# Altium footprint library RC_ControllerV.2.PcbLib: 43 footprints (part 1 of 3)
Each footprint in its own frame and in the unit in brackets; x right, y up, seen from the top. Pads: shape width x height; smd on the part's side, far side on the other; paste and mask are expansions set on the pad; w line width, h text height; cw(c..) or ccw(c..) is an arc to the next point about the centre after c.
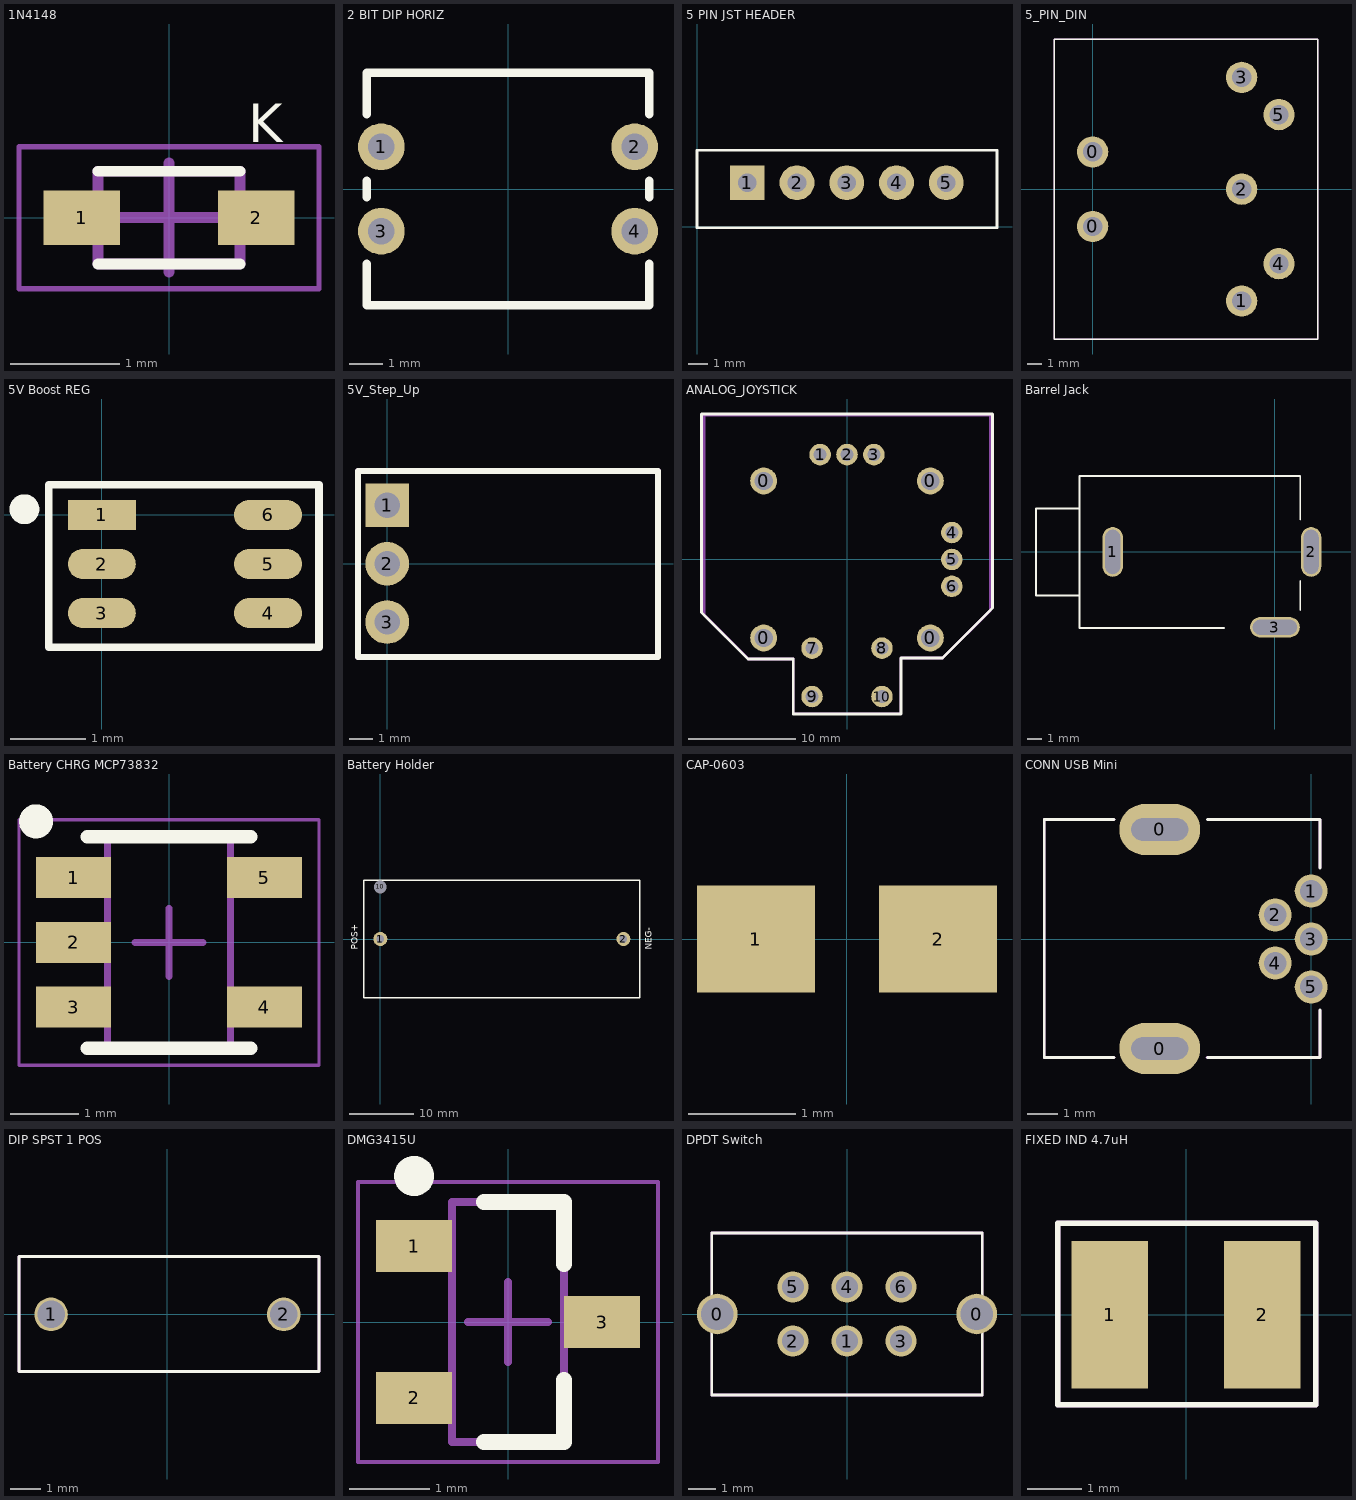
[diagram p0: the footprints below, top view; thin cyan lines are the x and y axes]

## 1N4148 [mm]
height 0.77
pads (2):
  rect 0.7x0.5 smd: 1(-0.8,0) 2(0.8,0)
Top Overlay:
  lines w0.1: -0.65,-0.425 0.65,-0.425 ; -0.65,0.425 0.65,0.425
  text "K" at 0.725,0.575 h0.6
Mechanical 13:
  lines w0.1: -0.65,-0.425 -0.65,0.425 0.65,0.425 0.65,-0.425 -0.65,-0.425
Mechanical 15:
  lines w0.05: -1.375,-0.65 -1.375,0.65 1.375,0.65 1.375,-0.65 -1.375,-0.65
  lines w0.1: -0.5,0 0.5,0 ; 0,-0.5 0,0.5
3D body "User Library-SOD-523F.STEP": height 0.71, standoff 0.01, extent -0.8,-0.399 0.8,0.399

## 2 BIT DIP HORIZ [mm]
pads (4):
  round 1.4 hole 0.8 mask+0.102: 1(-3.81,1.27) 2(3.81,1.27) 3(-3.81,-1.27) 4(3.81,-1.27)
Top Overlay:
  lines w0.254: -4.25,-2.25 -4.25,-3.5 4.25,-3.5 4.25,-2.25 ; -4.25,-0.25 -4.25,0.25 ; -4.25,2.25 -4.25,3.5 4.25,3.5 4.25,2.25 ; 4.25,-0.25 4.25,0.25
3D body "User Library-switch-2position.STEP": height 4.75, standoff -3.2, extent -4,-3.3 4,3.25

## 5 PIN JST HEADER [mm]
pads (5):
  rect 1.75x1.75 hole 0.95: 1(2.5,2.2)
  round 1.75 hole 0.95: 2(5,2.2) 3(7.5,2.2) 4(10,2.2) 5(12.5,2.2)
Top Overlay:
  lines w0.127: -0.025,-0.05 -0.025,3.825 15.05,3.825 15.05,-0.05 -0.025,-0.05
3D body: height 4.5, standoff 0, extent -0.325,0 -0.325,0
3D body "B5B-EH-A.STEP": height 6, standoff -3.2, extent 0,0 15,3.8

## 5_PIN_DIN [mm]
pads (7):
  round 2.1 hole 1.3: 0(0,-2.5) 0(0,2.5) 1(10,-7.5) 2(10,0) 3(10,7.5) 4(12.5,-5) 5(12.5,5)
Top Overlay:
  lines w0.1: -2.575,-10.05 -2.575,10.075 15.1,10.075 15.1,-10.05 -2.575,-10.05
Mechanical 29:
  lines w0.1: -2.575,-10.05 -2.575,10.075 15.1,10.075 15.1,-10.05 -2.575,-10.05
  text ".designator" at -1,0.5 h1.52
3D body "CUI_SDS-50J.step": height 21.1, standoff -3.5, extent -2.5,-10 13,10

## 5V Boost REG [mm]
pads (6):
  rect 0.9x0.4 smd: 1(0,0)
  oval 0.9x0.4 smd: 2(0,-0.65) 3(0,-1.3) 4(2.2,-1.3) 5(2.2,-0.65) 6(2.2,0)
Top Overlay:
  circle w0.254: c-1.025,0.075 r0.071
  lines w0.1: -0.7,-1.75 2.875,-1.75 2.875,0.4 -0.7,0.4 -0.7,-1.75
3D body "DCK6.step": height 1.09, standoff 0, extent -0.106,-1.73 2.306,0.43

## 5V_Step_Up [mm]
pads (3):
  rect 1.9x1.9 hole 1.1: 1(0,2.54)
  round 1.9 hole 1.1: 2(0,0) 3(0,-2.54)
Top Overlay:
  lines w0.254: -1.27,-4.064 -1.27,4.039 11.786,4.039 11.786,-4.064 -1.27,-4.064
Mechanical 29:
  lines w0.254: -1.27,-4.064 -1.27,4.039 11.786,4.039 11.786,-4.039 11.76,-4.064 -1.27,-4.064
3D body: height 4.31, standoff -3.49, extent 5.232,-0.559 5.232,-0.559
3D body: height 4.31, standoff -3.49, extent 6.807,-1.092 6.807,-1.092
3D body: height 7, standoff 0, extent -1.27,-4.064 11.76,4.039

## ANALOG_JOYSTICK [mm]
pads (14):
  round 2.5 hole 1.7: 0(-7.75,-7.3) 0(-7.75,7.3) 0(7.75,-7.3) 0(7.75,7.3)
  round 2 hole 1.2: 1(-2.5,9.75) 2(0,9.75) 3(2.5,9.75) 4(9.75,2.5) 5(9.75,0) 6(9.75,-2.5) 7(-3.25,-8.25) 8(3.25,-8.25) 9(-3.25,-12.75) 10(3.25,-12.75)
Top Overlay:
  lines w0.254: -13.525,-4.925 -13.525,13.525 13.525,13.525 13.525,-4.525 8.875,-9.175 5.025,-9.175 5.025,-14.375 -5,-14.375 -5,-9.25 -9.2,-9.25 -13.525,-4.925
Mechanical 29:
  lines w0.254: -13.272,-5.153 -13.272,13.397 13.325,13.397 13.325,-4.75 8.9,-9.175 5,-9.175 5,-14.35 -5,-14.35 -5,-9.25 -9.175,-9.25 -13.272,-5.153
  text ".designator" at -8.4,2.525 h1.52

## Barrel Jack [mil]
pads (3):
  oval 55x135 hole 40 slot 120 at 90 deg: 1(-440.94,0) 2(98.43,0)
  oval 135x55 hole 40 slot 120 at 0 deg: 3(0,-204.72)
Top Overlay:
  lines w5: -531.5,-118.11 -649.61,-118.11 -649.61,118.11 -531.5,118.11 ; -137.8,-206.69 -531.5,-206.69 -531.5,206.69 -137.8,206.69 68.9,206.69 68.9,88.58 ; 68.9,-157.48 68.9,-78.74
3D body "CUI_MJ-3536NG.sldprt": height 401.57, standoff -169.29, extent -654.53,-210.63 103.35,198.82

## Battery CHRG MCP73832 [mm] "Single cell LiPO Charge Managment IC"
height 1.45
pads (5):
  rect 1.1x0.6 smd: 1(-1.4,0.95) 2(-1.4,0) 3(-1.4,-0.95) 4(1.4,-0.95) 5(1.4,0.95)
Top Overlay:
  circle w0.25: c-1.95,1.775 r0.125
  lines w0.2: -1.2,-1.55 1.2,-1.55 ; -1.2,1.55 1.2,1.55
Mechanical 13:
  lines w0.1: -0.9,-1.55 0.9,-1.55 0.9,1.55 -0.9,1.55 -0.9,-1.55
Mechanical 15:
  lines w0.05: -2.2,-1.8 2.2,-1.8 2.2,1.8 -2.2,1.8 -2.2,-1.8
  lines w0.1: -0.5,0 0.5,0 ; 0,-0.5 0,0.5
3D body "User Library-sot25.STEP": height 1.11, standoff -0.04, extent -1.2,-1.525 1.2,1.475

## Battery Holder [mm]
pads (3):
  round 2.184 hole 1.19: 1(0,0) 2(37.82,0)
  round 1.5 hole 1.98: 10(0,8.1)
Top Overlay:
  lines w0.254: -2.555,-9.145 40.375,-9.145 40.375,9.145 -2.555,9.145 -2.555,-9.145
  text "NEG-" at 42.2,-1.7 h1
  text "POS+" at -3.475,-1.7 h1
3D body "keystone-PN1051.STEP": height 15.34, standoff -3.46, extent -2.635,-9.095 40.291,9.193
3D body: height 0.25, standoff 0, extent 13.665,-2.134 13.665,-2.134

## CAP-0603 [mm]
pads (2):
  rect 1.1x1 smd: 1(-0.85,0) 2(0.85,0)
3D body "SW3DPS-CAPACITOR 0603-DEFAULT.STEP": height 0.88, standoff 0.02, extent -0.8,-0.43 0.8,0.43

## CONN USB Mini [mm]
pads (7):
  oval 2.7x1.7 hole 0.75 slot 1.9 at 0 deg: 0(-5.05,-3.65) 0(-5.05,3.65)
  round 1.1 hole 0.75: 1(0,1.6) 2(-1.2,0.8) 3(0,0) 4(-1.2,-0.8) 5(0,-1.6)
Top Overlay:
  lines w0.1: -6.575,-3.95 -8.9,-3.95 -8.9,3.975 -6.575,3.975 ; -3.45,-3.95 0.3,-3.95 0.3,-2.375 ; -3.45,3.975 0.3,3.975 0.3,2.375
Mechanical 29:
  lines w0.1: -6.575,-3.95 -8.9,-3.95 -8.9,3.975 -6.575,3.975 ; -3.475,-3.95 0.3,-3.95 0.3,-2.375 ; -3.45,3.975 0.3,3.975 0.3,2.375
  text ".Designator" at -6.125,0.15 h0.6
3D body "548190519.stp": height 3.96, standoff -1.79, extent -8.775,-3.85 0.225,3.85

## DIP SPST 1 POS [mm]
pads (2):
  round 1.1 hole 0.9: 1(-3.81,0) 2(3.81,0)
Top Overlay:
  lines w0.1: -4.86,-1.875 -4.86,1.9 4.965,1.9 4.965,-1.875 -4.86,-1.875
Mechanical 29:
  lines w0.1: -4.86,-1.875 -4.86,1.9 4.965,1.9 4.965,-1.875 -4.86,-1.875
  text ".Designator" at -1.935,-0.225 h0.6
3D body "418117270901 (rev1).stp": height 6.31, standoff -3.99, extent -4.735,-1.77 4.865,1.77

## DMG3415U [mm] "SOT23, 3-Leads, Body 2.90x2.40mm, Pitch 0.95mm, IPC Medium Density"
height 0.91
pads (3):
  rect 0.95x0.65 smd: 1(-1.175,0.95) 2(-1.175,-0.95) 3(1.175,0)
Top Overlay:
  circle w0.25: c-1.175,1.825 r0.125
  lines w0.2: -0.3,-1.5 0.7,-1.5 0.7,-0.725 ; -0.3,1.5 0.7,1.5 0.7,0.725
Mechanical 13:
  lines w0.1: -0.7,-1.5 0.7,-1.5 0.7,1.5 -0.7,1.5 -0.7,-1.5
Mechanical 15:
  lines w0.05: -1.875,-1.75 1.875,-1.75 1.875,1.75 -1.875,1.75 -1.875,-1.75
  lines w0.1: -0.5,0 0.5,0 ; 0,-0.5 0,0.5
3D body "User Library-SOT23-3.STEP": height 1.3, standoff 0, extent -1.4,-1.45 1.4,1.45

## DPDT Switch [mm]
pads (8):
  round 1.5 hole 1.2: 0(-4.8,0) 0(4.8,0)
  round 1.15 hole 0.8: 1(0,-1) 2(-2,-1) 3(2,-1) 4(0,1) 5(-2,1) 6(2,1)
Top Overlay:
  lines w0.1: -5,-3 5,-3 5,3 -5,3 -5,-3
Mechanical 1:
  lines w0.1: -5,-3 -5,3 5,3 5,-3 -5,-3

## FIXED IND 4.7uH [mm]
pads (2):
  rect 1.4x2.7 smd: 1(-1.4,0) 2(1.4,0)
Top Overlay:
  lines w0.1: -2.35,-1.65 2.375,-1.65 2.375,1.675 -2.35,1.675 -2.35,-1.65
Mechanical 29:
  lines w0.1: -2.35,-1.65 2.375,-1.65 2.375,1.675 -2.35,1.675 -2.35,-1.65
  text ".Designator" at -1.825,-0.475 h1
3D body "IND_TAIYO_NR3015.step": height 1.5, standoff 0, extent -1.549,-1.552 1.549,1.552